# EAGLE library part TLV320AIC3100 (library audio-codec)
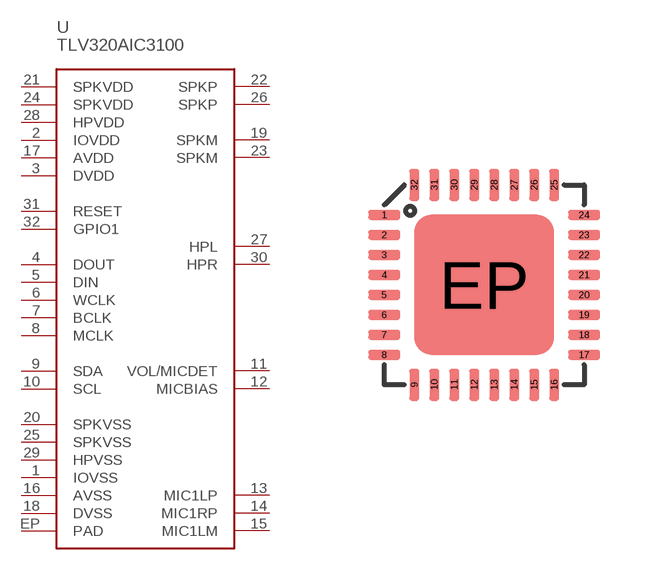
[diagram p0: symbol with the pads of QFN32; footprint QFN32]

Designator prefix -

## TLV320AIC3100  [QFN32]
1  IOVSS
2  IOVDD
3  DVDD
4  DOUT
5  DIN
6  WCLK
7  BCLK
8  MCLK
9  SDA
10  SCL
11  VOL/MICDET
12  MICBIAS
13  MIC1LP
14  MIC1RP
15  MIC1LM
16  AVSS
17  AVDD
18  DVSS
19  SPKM
20  SPKVSS
21  SPKVDD
22  SPKP
23  SPKM
24  SPKVDD
25  SPKVSS
26  SPKP
27  HPL
28  HPVDD
29  HPVSS
30  HPR
31  RESET
32  GPIO1
EP  PAD

## Footprint QFN32 (pad centres in mm)
smd 0.8 x 0.25: 1 -2.5,1.75; 2 -2.5,1.25; 3 -2.5,0.75; 4 -2.5,0.25; 5 -2.5,-0.25; 6 -2.5,-0.75; 7 -2.5,-1.25; 8 -2.5,-1.75; 17 2.5,-1.75; 18 2.5,-1.25; 19 2.5,-0.75; 20 2.5,-0.25; 21 2.5,0.25; 22 2.5,0.75; 23 2.5,1.25; 24 2.5,1.75
smd 0.25 x 0.8: 9 -1.75,-2.5; 10 -1.25,-2.5; 11 -0.75,-2.5; 12 -0.25,-2.5; 13 0.25,-2.5; 14 0.75,-2.5; 15 1.25,-2.5; 16 1.75,-2.5; 25 1.75,2.5; 26 1.25,2.5; 27 0.75,2.5; 28 0.25,2.5; 29 -0.25,2.5; 30 -0.75,2.5; 31 -1.25,2.5; 32 -1.75,2.5
smd 3.5 x 3.5: EP 0,0